# Altium integrated library Integrated_Library.IntLib: 4 symbols
Pins are listed as number, name and electrical type; pins without a type are passive.

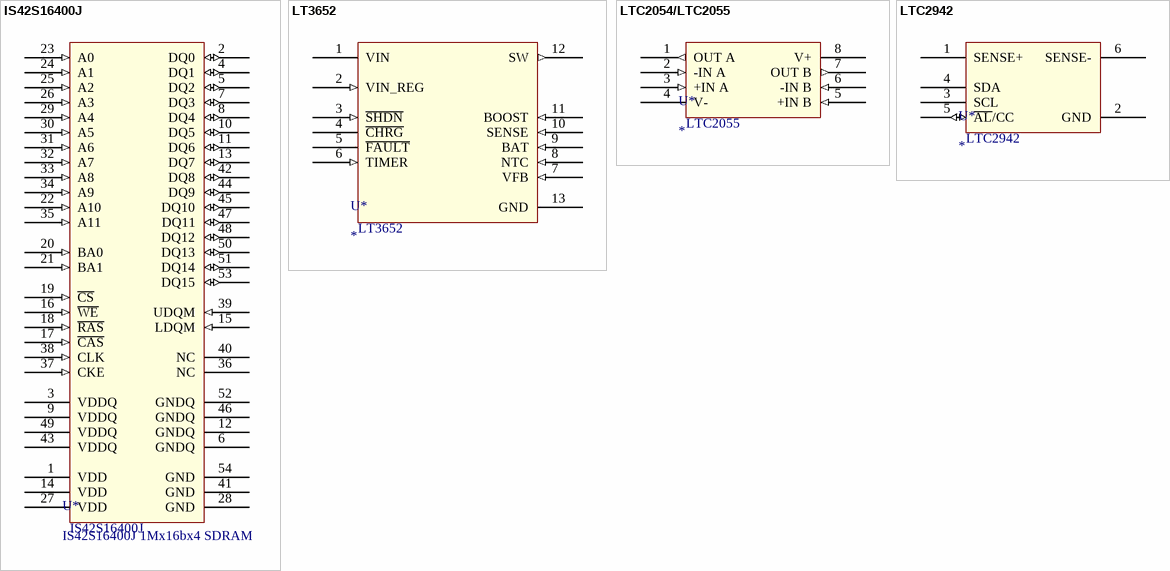
[diagram p0: symbols IS42S16400J to LTC2942]

## IS42S16400J
designator U*, comment IS42S16400J 1Mx16bx4 SDRAM  PartNumber: IS42S16400J
1Mb x 16 x 4 bank (64 Mbit) SDRAM
footprint TSOP80P1170X120-54N (TSOP, 54-Leads, Body 22.22x10.16mm,  (IS42S16400J))
pins: 1 VDD (power), 2 DQ0 (io), 3 VDDQ (power), 4 DQ1 (io), 5 DQ2 (io), 6 GNDQ (power), 7 DQ3 (io), 8 DQ4 (io), 9 VDDQ (power), 10 DQ5 (io), 11 DQ6 (io), 12 GNDQ (power), 13 DQ7 (io), 14 VDD (power), 15 LDQM (in), 16 ~{WE} (in), 17 ~{CAS} (in), 18 ~{RAS} (in), 19 ~{CS} (in), 20 BA0 (in), 21 BA1 (in), 22 A10 (in), 23 A0 (in), 24 A1 (in), 25 A2 (in), 26 A3 (in), 27 VDD (power), 28 GND (power), 29 A4 (in), 30 A5 (in), 31 A6 (in), 32 A7 (in), 33 A8 (in), 34 A9 (in), 35 A11 (in), 36 NC, 37 CKE (in), 38 CLK (in), 39 UDQM (in), 40 NC, 41 GND (power), 42 DQ8 (io), 43 VDDQ (power), 44 DQ9 (io), 45 DQ10 (io), 46 GNDQ (power), 47 DQ11 (io), 48 DQ12 (io), 49 VDDQ (power), 50 DQ13 (io), 51 DQ14 (io), 52 GNDQ (power), 53 DQ15 (io), 54 GND (power)

## LT3652
designator U*  PartNumber: LT3652
MPPC and battery charger
footprint TSOP65P490X110_HS-13N (TSOP, 12-Leads, Body 4.04x3.00mm, Pitch 0.65mm, Thermal Pad 2.95x1.76mm,  (LT3652))
pins: 1 VIN (power), 2 VIN_REG (in), 3 ~{SHDN} (in), 4 ~{CHRG} (oc), 5 ~{FAULT} (oc), 6 TIMER (in), 7 VFB (in), 8 NTC (in), 9 BAT (in), 10 SENSE (in), 11 BOOST (in), 12 SW (out), 13 GND (power)

## LTC2054/LTC2055
designator U*  PartNumber: LTC2055
Dual zero-drift op amp
footprint TSOP65P490X110-8N (TSOP, 8-Leads, Body 3.00x3.00mm (LTC2054/LTC2055))
pins: 1 OUT A (out), 2 -IN A (in), 3 +IN A (in), 4 V- (power), 5 +IN B (in), 6 -IN B (in), 7 OUT B (out), 8 V+ (power)

## LTC2942
designator U*  PartNumber: LTC2942
I2C fuel gauge
footprint DFN6-2x3-0.50 (DFN-6 2mm x 3mm, 0.50 BSC)
pins: 1 SENSE+ (power), 2 GND (power), 3 SCL (oc), 4 SDA (oc), 5 ~{AL}/CC (io), 6 SENSE- (power), 7 NC hidden